# Altium footprint library PlateCutouts_Metric.PcbLib: 14 footprints
Each footprint in its own frame and in the unit in brackets; x right, y up, seen from the top. Pads: shape width x height; smd on the part's side, far side on the other; paste and mask are expansions set on the pad; w line width, h text height; cw(c..) or ccw(c..) is an arc to the next point about the centre after c.
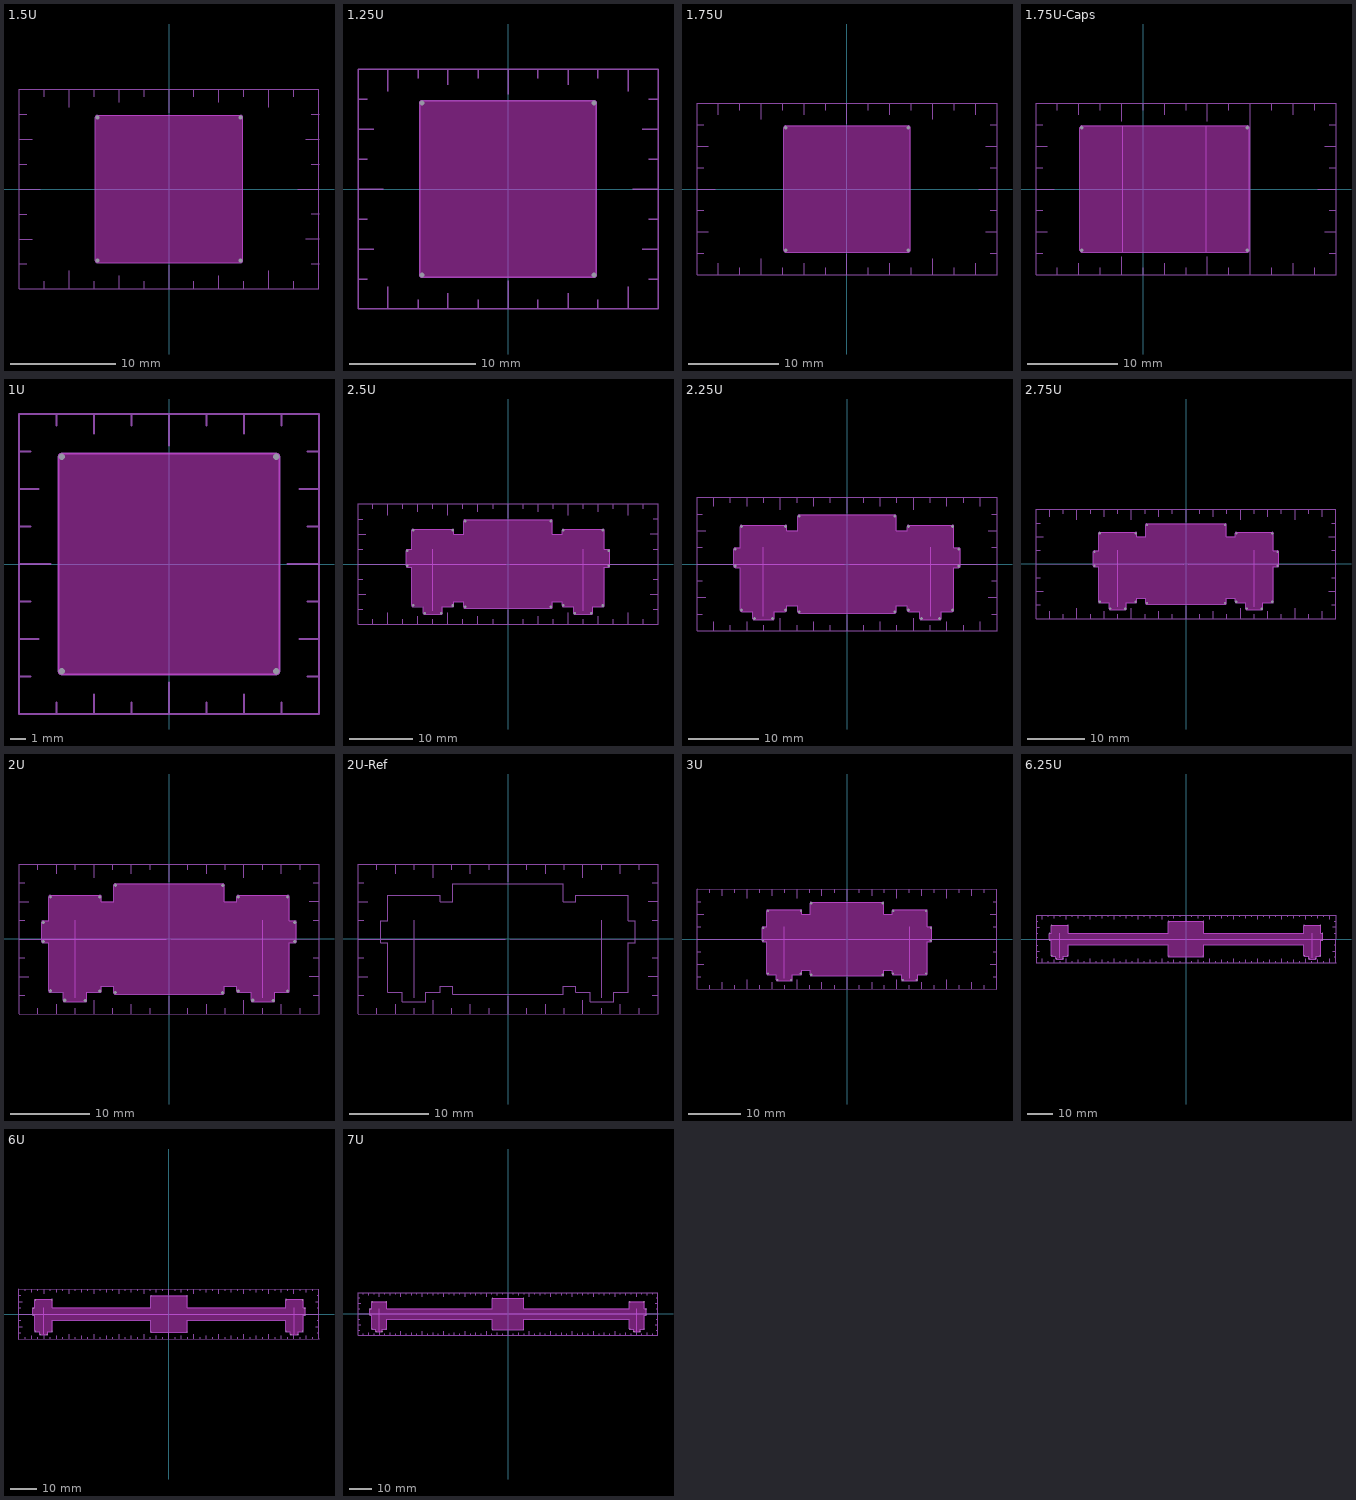
[diagram p0: the footprints below, top view; thin cyan lines are the x and y axes]

## 1.5U [mm]
pads (4):
  round 0.1 hole 0.4 unplated: 27(-6.8,-6.795) 27(-6.795,6.8) 27(6.795,-6.8) 27(6.8,6.795)
Keep-Out Layer:
  board cut-out: -6.8,-7 -6.84,-7 -6.913,-6.97 -6.97,-6.913 -7,-6.84 -7,-6.8 -7,6.8 -7,6.84 -6.97,6.913 -6.913,6.97 -6.84,7 -6.8,7 6.8,7 6.84,7 6.913,6.97 6.97,6.913 7,6.84 7,6.8 7,-6.8 7,-6.84 6.97,-6.913 6.913,-6.97 6.84,-7 6.8,-7
Board Outline:
  lines w0.1: -7,-6.8 ccw(c-6.8,-6.8) -6.8,-7 6.8,-7 ccw(c6.8,-6.8) 7,-6.8 7,6.8 ccw(c6.8,6.8) 6.8,7 -6.8,7 ccw(c-6.8,6.8) -7,6.8 -7,-6.8
Layout + Dimensions:
  lines w0.1: -14.25,-7.125 -13.5,-7.125 ; -14.25,-4.75 -13,-4.75 ; -14.25,-2.375 -13.5,-2.375 ; -14.25,0 -12.25,0 ; -14.25,2.375 -13.5,2.375 ; -14.25,4.75 -13,4.75 ; -14.25,7.125 -13.5,7.125 ; -11.875,-9.5 -11.875,-8.75 ; -11.875,8.75 -11.875,9.5 ; -9.5,-9.5 -9.5,-7.75 ; -9.5,7.75 -9.5,9.5 ; -7.125,-9.5 -7.125,-8.75 ; -7.125,8.75 -7.125,9.5 ; -4.75,-9.5 -4.75,-8.25 ; -4.75,8.25 -4.75,9.5 ; -2.375,-9.5 -2.375,-8.75 ; -2.375,8.75 -2.375,9.5 ; 0,-9.5 0,-7.25 ; 0,7.25 0,9.5 ; 2.375,-9.5 2.375,-8.75 ; 2.375,8.75 2.375,9.5 ; 4.75,-9.5 4.75,-8.25 ; 4.75,8.25 4.75,9.5 ; 7.125,-9.5 7.125,-8.75 ; 7.125,8.75 7.125,9.5 ; 9.5,-9.5 9.5,-7.75 ; 9.5,7.75 9.5,9.5 ; 11.875,-9.5 11.875,-8.75 ; 11.875,8.75 11.875,9.5 ; 12.25,0 14.25,0 ; 13,-4.75 14.25,-4.75 ; 13,4.75 14.25,4.75 ; 13.5,-7.125 14.25,-7.125 ; 13.5,-2.375 14.25,-2.375 ; 13.5,2.375 14.25,2.375 ; 13.5,7.125 14.25,7.125 ; -14.25,-9.5 -14.25,9.5 14.25,9.5 14.25,-9.5 -14.25,-9.5

## 1.25U [mm]
pads (4):
  round 0.1 hole 0.4 unplated: 27(-6.8,-6.795) 27(-6.795,6.8) 27(6.795,-6.8) 27(6.8,6.795)
Keep-Out Layer:
  board cut-out: -6.8,-7 -6.84,-7 -6.913,-6.97 -6.97,-6.913 -7,-6.84 -7,-6.8 -7,6.8 -7,6.84 -6.97,6.913 -6.913,6.97 -6.84,7 -6.8,7 6.8,7 6.84,7 6.913,6.97 6.97,6.913 7,6.84 7,6.8 7,-6.8 7,-6.84 6.97,-6.913 6.913,-6.97 6.84,-7 6.8,-7
Board Outline:
  lines w0.1: -7,-6.8 ccw(c-6.8,-6.8) -6.8,-7 6.8,-7 ccw(c6.8,-6.8) 7,-6.8 7,6.8 ccw(c6.8,6.8) 6.8,7 -6.8,7 ccw(c-6.8,6.8) -7,6.8 -7,-6.8
Layout + Dimensions:
  lines w0.1: -11.875,-7.125 -11.125,-7.125 ; -11.875,-4.75 -10.625,-4.75 ; -11.875,-2.375 -11.125,-2.375 ; -11.875,0 -9.875,0 ; -11.875,2.375 -11.125,2.375 ; -11.875,4.75 -10.625,4.75 ; -11.875,7.125 -11.125,7.125 ; -9.5,-9.5 -9.5,-7.75 ; -9.5,7.75 -9.5,9.5 ; -7.125,-9.5 -7.125,-8.75 ; -7.125,8.75 -7.125,9.5 ; -4.75,-9.5 -4.75,-8.25 ; -4.75,8.25 -4.75,9.5 ; -2.375,-9.5 -2.375,-8.75 ; -2.375,8.75 -2.375,9.5 ; 0,-9.5 0,-7.25 ; 0,7.5 0,9.5 ; 2.375,-9.5 2.375,-8.75 ; 2.375,8.75 2.375,9.5 ; 4.75,-9.5 4.75,-8.25 ; 4.75,8.25 4.75,9.5 ; 7.125,-9.5 7.125,-8.75 ; 7.125,8.75 7.125,9.5 ; 9.5,-9.5 9.5,-7.75 ; 9.5,7.75 9.5,9.5 ; 9.875,0 11.875,0 ; 10.625,-4.75 11.875,-4.75 ; 10.625,4.75 11.875,4.75 ; 11.125,-7.125 11.875,-7.125 ; 11.125,-2.375 11.875,-2.375 ; 11.125,2.375 11.875,2.375 ; 11.125,7.125 11.875,7.125 ; -11.875,-9.5 11.875,-9.5 11.875,9.5 -11.875,9.5 -11.875,-9.5

## 1.75U [mm]
pads (4):
  round 0.1 hole 0.4 unplated: 27(-6.8,-6.795) 27(-6.795,6.8) 27(6.795,-6.8) 27(6.8,6.795)
Keep-Out Layer:
  board cut-out: -6.8,-7 -6.84,-7 -6.913,-6.97 -6.97,-6.913 -7,-6.84 -7,-6.8 -7,6.8 -7,6.84 -6.97,6.913 -6.913,6.97 -6.84,7 -6.8,7 6.8,7 6.84,7 6.913,6.97 6.97,6.913 7,6.84 7,6.8 7,-6.8 7,-6.84 6.97,-6.913 6.913,-6.97 6.84,-7 6.8,-7
Board Outline:
  lines w0.1: -7,-6.8 ccw(c-6.8,-6.8) -6.8,-7 6.8,-7 ccw(c6.8,-6.8) 7,-6.8 7,6.8 ccw(c6.8,6.8) 6.8,7 -6.8,7 ccw(c-6.8,6.8) -7,6.8 -7,-6.8
Layout + Dimensions:
  lines w0.1: -16.625,-7.125 -15.875,-7.125 ; -16.625,-4.75 -15.375,-4.75 ; -16.625,-2.375 -15.875,-2.375 ; -16.625,0 -14.625,0 ; -16.625,2.375 -15.875,2.375 ; -16.625,4.75 -15.375,4.75 ; -16.625,7.125 -15.875,7.125 ; -14.25,-9.5 -14.25,-8.25 ; -14.25,8.25 -14.25,9.5 ; -11.875,-9.5 -11.875,-8.75 ; -11.875,8.75 -11.875,9.5 ; -9.5,-9.5 -9.5,-7.75 ; -9.5,7.75 -9.5,9.5 ; -7.125,-9.5 -7.125,-8.75 ; -7.125,8.75 -7.125,9.5 ; -4.75,-9.5 -4.75,-8.25 ; -4.75,8.25 -4.75,9.5 ; -2.375,-9.5 -2.375,-8.75 ; -2.375,8.75 -2.375,9.5 ; 0,-9.5 0,-7.25 ; 0,7.25 0,9.5 ; 2.375,-9.5 2.375,-8.75 ; 2.375,8.75 2.375,9.5 ; 4.75,-9.5 4.75,-8.25 ; 4.75,8.25 4.75,9.5 ; 7.125,-9.5 7.125,-8.75 ; 7.125,8.75 7.125,9.5 ; 9.5,-9.5 9.5,-7.75 ; 9.5,7.75 9.5,9.5 ; 11.875,-9.5 11.875,-8.75 ; 11.875,8.75 11.875,9.5 ; 14.25,-9.5 14.25,-8.25 ; 14.25,8.25 14.25,9.5 ; 14.625,0 16.625,0 ; 15.375,-4.75 16.625,-4.75 ; 15.375,4.75 16.625,4.75 ; 15.875,-7.125 16.625,-7.125 ; 15.875,-2.375 16.625,-2.375 ; 15.875,2.375 16.625,2.375 ; 15.875,7.125 16.625,7.125 ; -16.625,-9.5 16.625,-9.5 16.625,9.5 -16.625,9.5 -16.625,-9.5

## 1.75U-Caps [mm]
pads (4):
  round 0.1 hole 0.4 unplated: 27(-6.8,-6.795) 27(-6.795,6.8) 27(11.545,-6.8) 27(11.55,6.795)
Keep-Out Layer:
  board cut-out: -6.8,-7 -6.84,-7 -6.913,-6.97 -6.97,-6.913 -7,-6.84 -7,-6.8 -7,6.8 -7,6.84 -6.97,6.913 -6.913,6.97 -6.84,7 -6.8,7 11.55,7 11.59,7 11.663,6.97 11.72,6.913 11.75,6.84 11.75,6.8 11.75,-6.8 11.75,-6.84 11.72,-6.913 11.663,-6.97 11.59,-7 11.55,-7
Board Outline:
  lines w0.1: -2.25,-7 -2.25,7 ; 7,-7 7,7 ; -7,-6.8 ccw(c-6.8,-6.8) -6.8,-7 11.55,-7 ccw(c11.55,-6.8) 11.75,-6.8 11.75,6.8 ccw(c11.55,6.8) 11.55,7 -6.8,7 ccw(c-6.8,6.8) -7,6.8 -7,-6.8
Layout + Dimensions:
  lines w0.1: -11.875,-7.125 -11.125,-7.125 ; -11.875,-4.75 -10.625,-4.75 ; -11.875,-2.375 -11.125,-2.375 ; -11.875,0 -9.875,0 ; -11.875,2.375 -11.125,2.375 ; -11.875,4.75 -10.625,4.75 ; -11.875,7.125 -11.125,7.125 ; -9.5,-9.5 -9.5,-8.75 ; -9.5,8.75 -9.5,9.5 ; -7.125,-9.5 -7.125,-8.25 ; -7.125,8.25 -7.125,9.5 ; -4.75,-9.5 -4.75,-8.75 ; -4.75,8.75 -4.75,9.5 ; -2.375,-9.5 -2.375,-7.5 ; -2.375,7.5 -2.375,9.5 ; 0,-9.5 0,-8.75 ; 0,8.75 0,9.5 ; 2.375,-9.5 2.375,-8.25 ; 2.375,8.25 2.375,9.5 ; 4.75,-9.5 4.75,-8.75 ; 4.75,8.75 4.75,9.5 ; 7.125,-9.5 7.125,-7.5 ; 7.125,7.5 7.125,9.5 ; 9.5,-9.5 9.5,-8.75 ; 9.5,8.75 9.5,9.5 ; 11.875,-9.5 11.875,9.5 ; 14.25,-9.5 14.25,-8.75 ; 14.25,8.75 14.25,9.5 ; 16.625,-9.5 16.625,-8.25 ; 16.625,8.25 16.625,9.5 ; 19,-9.5 19,-8.75 ; 19,8.75 19,9.5 ; 19.375,0 21.375,0 ; 20.125,-4.75 21.375,-4.75 ; 20.125,4.75 21.375,4.75 ; 20.625,-7.125 21.375,-7.125 ; 20.625,-2.375 21.375,-2.375 ; 20.625,2.375 21.375,2.375 ; 20.625,7.125 21.375,7.125 ; -11.875,-9.5 21.375,-9.5 21.375,9.5 -11.875,9.5 -11.875,-9.5
  text "1.25" at -1.15,-8.475 h1
  text "1.5" at 4.075,-8.475 h1

## 1U [mm]
pads (4):
  round 0.1 hole 0.4 unplated: 27(-6.8,-6.795) 27(-6.795,6.8) 27(6.795,-6.8) 27(6.8,6.795)
Keep-Out Layer:
  board cut-out: -6.8,-7 -6.84,-7 -6.913,-6.97 -6.97,-6.913 -7,-6.84 -7,-6.8 -7,6.8 -7,6.84 -6.97,6.913 -6.913,6.97 -6.84,7 -6.8,7 6.8,7 6.84,7 6.913,6.97 6.97,6.913 7,6.84 7,6.8 7,-6.8 7,-6.84 6.97,-6.913 6.913,-6.97 6.84,-7 6.8,-7
Board Outline:
  lines w0.1: -7,-6.8 ccw(c-6.8,-6.8) -6.8,-7 6.8,-7 ccw(c6.8,-6.8) 7,-6.8 7,6.8 ccw(c6.8,6.8) 6.8,7 -6.8,7 ccw(c-6.8,6.8) -7,6.8 -7,-6.8
Layout + Dimensions:
  lines w0.1: -9.5,-7.125 -8.75,-7.125 ; -9.5,-4.75 -8.25,-4.75 ; -9.5,-2.375 -8.75,-2.375 ; -9.5,0 -7.5,0 ; -9.5,2.375 -8.75,2.375 ; -9.5,4.75 -8.25,4.75 ; -9.5,7.125 -8.75,7.125 ; -7.125,-9.5 -7.125,-8.75 ; -7.125,8.75 -7.125,9.5 ; -4.75,-9.5 -4.75,-8.25 ; -4.75,8.25 -4.75,9.5 ; -2.375,-9.5 -2.375,-8.75 ; -2.375,8.75 -2.375,9.5 ; 0,-9.5 0,-7.5 ; 0,7.5 0,9.5 ; 2.375,-9.5 2.375,-8.75 ; 2.375,8.75 2.375,9.5 ; 4.75,-9.5 4.75,-8.25 ; 4.75,8.25 4.75,9.5 ; 7.125,-9.5 7.125,-8.75 ; 7.125,8.75 7.125,9.5 ; 7.5,0 9.5,0 ; 8.25,-4.75 9.5,-4.75 ; 8.25,4.75 9.5,4.75 ; 8.75,-7.125 9.5,-7.125 ; 8.75,-2.375 9.5,-2.375 ; 8.75,2.375 9.5,2.375 ; 8.75,7.125 9.5,7.125 ; -9.5,-9.5 9.5,-9.5 9.5,9.5 -9.5,9.5 -9.5,-9.5

## 2.5U [mm]
pads (20):
  round 0.1 hole 0.4 unplated: 27(-15.925,-0.295) 27(-15.92,2.1) 27(-15.025,-6.565) 27(-15.02,5.33) 27(-13.2,-7.765) 27(-10.605,-7.77) 27(-8.78,-6.57) 27(-8.775,5.325) 27(-6.8,-6.795) 27(-6.795,6.8) 27(6.795,-6.8) 27(6.8,6.795) 27(8.775,-6.565) 27(8.78,5.325) 27(10.6,-7.765) 27(13.195,-7.77) 27(15.02,-6.57) 27(15.025,5.325) 27(15.92,-0.3) 27(15.925,2.095)
Keep-Out Layer:
  drawing of 1 lines, arcs and shapes, not listed
Board Outline:
  lines w0.1: 8.775,5.525 ccw(c8.775,5.325) 8.575,5.325 8.575,4.725 7,4.725 7,6.8 ccw(c6.8,6.8) 6.8,7 -6.8,7 ccw(c-6.8,6.8) -7,6.8 -7,4.725 -8.575,4.725 -8.575,5.33 ccw(c-8.775,5.33) -8.775,5.53 -15.025,5.53 ccw(c-15.025,5.33) -15.225,5.33 -15.225,2.3 -15.925,2.3 ccw(c-15.925,2.1) -16.125,2.1 -16.125,-0.3 ccw(c-15.925,-0.3) -15.925,-0.5 -15.225,-0.5 -15.225,-6.57 ccw(c-15.025,-6.57) -15.025,-6.77 -13.4,-6.77 -13.4,-7.77 ccw(c-13.2,-7.77) -13.2,-7.97 -10.6,-7.97 ccw(c-10.6,-7.77) -10.4,-7.77 -10.4,-6.77 -8.775,-6.77 ccw(c-8.775,-6.57) -8.575,-6.57 -8.575,-5.97 -7,-5.97 -7,-6.8 ccw(c-6.8,-6.8) -6.8,-7 6.8,-7 ccw(c6.8,-6.8) 7,-6.8 7,-5.97 8.575,-5.97 8.575,-6.57 ccw(c8.775,-6.57) 8.775,-6.77 10.4,-6.77 10.4,-7.77 ccw(c10.6,-7.77) 10.6,-7.97 13.2,-7.97 ccw(c13.2,-7.77) 13.4,-7.77 13.4,-6.77 15.025,-6.77 ccw(c15.025,-6.57) 15.225,-6.57 15.225,-0.5 15.925,-0.5 ccw(c15.925,-0.3) 16.125,-0.3 16.125,2.1 ccw(c15.925,2.1) 15.925,2.3 15.225,2.3 15.225,5.33 ccw(c15.025,5.33) 15.025,5.53 8.775,5.53
Layout + Dimensions:
  lines w0.1: -23.75,-7.125 -23,-7.125 ; -23.75,-4.75 -22.5,-4.75 ; -23.75,-2.375 -23,-2.375 ; -23.75,0 -0.375,0 ; -23.75,2.375 -23,2.375 ; -23.75,4.75 -22.5,4.75 ; -23.75,7.125 -23,7.125 ; -21.375,-9.5 -21.375,-8.75 ; -21.375,8.75 -21.375,9.5 ; -19,-9.5 -19,-7.75 ; -19,7.75 -19,9.5 ; -16.625,-9.5 -16.625,-8.75 ; -16.625,8.75 -16.625,9.5 ; -14.25,-9.5 -14.25,-8.25 ; -14.25,8.25 -14.25,9.5 ; -11.9,-7.425 -11.9,2.375 ; -11.875,-9.5 -11.875,-8.75 ; -11.875,8.75 -11.875,9.5 ; -9.5,-9.5 -9.5,-7.75 ; -9.5,7.75 -9.5,9.5 ; -7.125,-9.5 -7.125,-8.75 ; -7.125,8.75 -7.125,9.5 ; -4.75,-9.5 -4.75,-8.25 ; -4.75,8.25 -4.75,9.5 ; -2.375,-9.5 -2.375,-8.75 ; -2.375,8.75 -2.375,9.5 ; 0,-9.5 0,-7.25 ; 0,7.25 0,9.5 ; 0.375,0 23.75,0 ; 2.375,-9.5 2.375,-8.75 ; 2.375,8.75 2.375,9.5 ; 4.75,-9.5 4.75,-8.25 ; 4.75,8.25 4.75,9.5 ; 7.125,-9.5 7.125,-8.75 ; 7.125,8.75 7.125,9.5 ; 9.5,-9.5 9.5,-7.75 ; 9.5,7.75 9.5,9.5 ; 11.875,-9.5 11.875,-8.75 ; 11.875,8.75 11.875,9.5 ; 11.9,-7.425 11.9,2.375 ; 14.25,-9.5 14.25,-8.25 ; 14.25,8.25 14.25,9.5 ; 16.625,-9.5 16.625,-8.75 ; 16.625,8.75 16.625,9.5 ; 19,-9.5 19,-7.75 ; 19,7.75 19,9.5 ; 21.375,-9.5 21.375,-8.75 ; 21.375,8.75 21.375,9.5 ; 22.5,-4.75 23.75,-4.75 ; 22.5,4.75 23.75,4.75 ; 23,-7.125 23.75,-7.125 ; 23,-2.375 23.75,-2.375 ; 23,2.375 23.75,2.375 ; 23,7.125 23.75,7.125 ; -23.75,-9.5 -23.75,9.5 23.75,9.5 23.75,-9.5 -23.75,-9.5

## 2.25U [mm]
pads (20):
  round 0.1 hole 0.4 unplated: 27(-15.925,-0.295) 27(-15.92,2.1) 27(-15.025,-6.565) 27(-15.02,5.33) 27(-13.2,-7.765) 27(-10.605,-7.77) 27(-8.78,-6.57) 27(-8.775,5.325) 27(-6.8,-6.795) 27(-6.795,6.8) 27(6.795,-6.8) 27(6.8,6.795) 27(8.775,-6.565) 27(8.78,5.325) 27(10.6,-7.765) 27(13.195,-7.77) 27(15.02,-6.57) 27(15.025,5.325) 27(15.92,-0.3) 27(15.925,2.095)
Keep-Out Layer:
  drawing of 1 lines, arcs and shapes, not listed
Board Outline:
  lines w0.1: 8.775,5.525 ccw(c8.775,5.325) 8.575,5.325 8.575,4.725 7,4.725 7,6.8 ccw(c6.8,6.8) 6.8,7 -6.8,7 ccw(c-6.8,6.8) -7,6.8 -7,4.725 -8.575,4.725 -8.575,5.33 ccw(c-8.775,5.33) -8.775,5.53 -15.025,5.53 ccw(c-15.025,5.33) -15.225,5.33 -15.225,2.3 -15.925,2.3 ccw(c-15.925,2.1) -16.125,2.1 -16.125,-0.3 ccw(c-15.925,-0.3) -15.925,-0.5 -15.225,-0.5 -15.225,-6.57 ccw(c-15.025,-6.57) -15.025,-6.77 -13.4,-6.77 -13.4,-7.77 ccw(c-13.2,-7.77) -13.2,-7.97 -10.6,-7.97 ccw(c-10.6,-7.77) -10.4,-7.77 -10.4,-6.77 -8.775,-6.77 ccw(c-8.775,-6.57) -8.575,-6.57 -8.575,-5.97 -7,-5.97 -7,-6.8 ccw(c-6.8,-6.8) -6.8,-7 6.8,-7 ccw(c6.8,-6.8) 7,-6.8 7,-5.97 8.575,-5.97 8.575,-6.57 ccw(c8.775,-6.57) 8.775,-6.77 10.4,-6.77 10.4,-7.77 ccw(c10.6,-7.77) 10.6,-7.97 13.2,-7.97 ccw(c13.2,-7.77) 13.4,-7.77 13.4,-6.77 15.025,-6.77 ccw(c15.025,-6.57) 15.225,-6.57 15.225,-0.5 15.925,-0.5 ccw(c15.925,-0.3) 16.125,-0.3 16.125,2.1 ccw(c15.925,2.1) 15.925,2.3 15.225,2.3 15.225,5.33 ccw(c15.025,5.33) 15.025,5.53 8.775,5.53
Layout + Dimensions:
  lines w0.1: -21.375,-7.125 -20.625,-7.125 ; -21.375,-4.75 -20.125,-4.75 ; -21.375,-2.375 -20.625,-2.375 ; -21.375,0 -0.375,0 ; -21.375,2.375 -20.625,2.375 ; -21.375,4.75 -20.125,4.75 ; -21.375,7.125 -20.625,7.125 ; -19,-9.5 -19,-8.25 ; -19,8.25 -19,9.5 ; -16.625,-9.5 -16.625,-8.75 ; -16.625,8.75 -16.625,9.5 ; -14.25,-9.5 -14.25,-8.25 ; -14.25,8.25 -14.25,9.5 ; -11.9,-7.425 -11.9,2.375 ; -11.875,-9.5 -11.875,-8.75 ; -11.875,8.75 -11.875,9.5 ; -9.5,-9.5 -9.5,-7.75 ; -9.5,7.75 -9.5,9.5 ; -7.125,-9.5 -7.125,-8.75 ; -7.125,8.75 -7.125,9.5 ; -4.75,-9.5 -4.75,-8.25 ; -4.75,8.25 -4.75,9.5 ; -2.375,-9.5 -2.375,-8.75 ; -2.375,8.75 -2.375,9.5 ; 0,-9.5 0,-7.25 ; 0,7.25 0,9.5 ; 0.375,0 21.375,0 ; 2.375,-9.5 2.375,-8.75 ; 2.375,8.75 2.375,9.5 ; 4.75,-9.5 4.75,-8.25 ; 4.75,8.25 4.75,9.5 ; 7.125,-9.5 7.125,-8.75 ; 7.125,8.75 7.125,9.5 ; 9.5,-9.5 9.5,-7.75 ; 9.5,7.75 9.5,9.5 ; 11.875,-9.5 11.875,-8.75 ; 11.875,8.75 11.875,9.5 ; 11.9,-7.425 11.9,2.375 ; 14.25,-9.5 14.25,-8.25 ; 14.25,8.25 14.25,9.5 ; 16.625,-9.5 16.625,-8.75 ; 16.625,8.75 16.625,9.5 ; 19,-9.5 19,-8.25 ; 19,8.25 19,9.5 ; 20.125,-4.75 21.375,-4.75 ; 20.125,4.75 21.375,4.75 ; 20.625,-7.125 21.375,-7.125 ; 20.625,-2.375 21.375,-2.375 ; 20.625,2.375 21.375,2.375 ; 20.625,7.125 21.375,7.125 ; -21.375,-9.5 -21.375,9.5 21.375,9.5 21.375,-9.5 -21.375,-9.5

## 2.75U [mm]
pads (20):
  round 0.1 hole 0.4 unplated: 27(-15.925,-0.295) 27(-15.92,2.1) 27(-15.025,-6.565) 27(-15.02,5.33) 27(-13.2,-7.765) 27(-10.605,-7.77) 27(-8.78,-6.57) 27(-8.775,5.325) 27(-6.8,-6.795) 27(-6.795,6.8) 27(6.795,-6.8) 27(6.8,6.795) 27(8.775,-6.565) 27(8.78,5.325) 27(10.6,-7.765) 27(13.195,-7.77) 27(15.02,-6.57) 27(15.025,5.325) 27(15.92,-0.3) 27(15.925,2.095)
Keep-Out Layer:
  drawing of 1 lines, arcs and shapes, not listed
Board Outline:
  lines w0.1: 8.775,5.525 ccw(c8.775,5.325) 8.575,5.325 8.575,4.725 7,4.725 7,6.8 ccw(c6.8,6.8) 6.8,7 -6.8,7 ccw(c-6.8,6.8) -7,6.8 -7,4.725 -8.575,4.725 -8.575,5.33 ccw(c-8.775,5.33) -8.775,5.53 -15.025,5.53 ccw(c-15.025,5.33) -15.225,5.33 -15.225,2.3 -15.925,2.3 ccw(c-15.925,2.1) -16.125,2.1 -16.125,-0.3 ccw(c-15.925,-0.3) -15.925,-0.5 -15.225,-0.5 -15.225,-6.57 ccw(c-15.025,-6.57) -15.025,-6.77 -13.4,-6.77 -13.4,-7.77 ccw(c-13.2,-7.77) -13.2,-7.97 -10.6,-7.97 ccw(c-10.6,-7.77) -10.4,-7.77 -10.4,-6.77 -8.775,-6.77 ccw(c-8.775,-6.57) -8.575,-6.57 -8.575,-5.97 -7,-5.97 -7,-6.8 ccw(c-6.8,-6.8) -6.8,-7 6.8,-7 ccw(c6.8,-6.8) 7,-6.8 7,-5.97 8.575,-5.97 8.575,-6.57 ccw(c8.775,-6.57) 8.775,-6.77 10.4,-6.77 10.4,-7.77 ccw(c10.6,-7.77) 10.6,-7.97 13.2,-7.97 ccw(c13.2,-7.77) 13.4,-7.77 13.4,-6.77 15.025,-6.77 ccw(c15.025,-6.57) 15.225,-6.57 15.225,-0.5 15.925,-0.5 ccw(c15.925,-0.3) 16.125,-0.3 16.125,2.1 ccw(c15.925,2.1) 15.925,2.3 15.225,2.3 15.225,5.33 ccw(c15.025,5.33) 15.025,5.53 8.775,5.53
Layout + Dimensions:
  lines w0.1: -26.125,-7.125 -25.375,-7.125 ; -26.125,-4.75 -24.875,-4.75 ; -26.125,-2.375 -25.375,-2.375 ; -26.125,0 -0.375,0 ; -26.125,2.375 -25.375,2.375 ; -26.125,4.75 -24.875,4.75 ; -26.125,7.125 -25.375,7.125 ; -23.75,-9.5 -23.75,-8.25 ; -23.75,8.25 -23.75,9.5 ; -21.375,-9.5 -21.375,-8.75 ; -21.375,8.75 -21.375,9.5 ; -19,-9.5 -19,-7.75 ; -19,7.75 -19,9.5 ; -16.625,-9.5 -16.625,-8.75 ; -16.625,8.75 -16.625,9.5 ; -14.25,-9.5 -14.25,-8.25 ; -14.25,8.25 -14.25,9.5 ; -11.9,-7.425 -11.9,2.375 ; -11.875,-9.5 -11.875,-8.75 ; -11.875,8.75 -11.875,9.5 ; -9.5,-9.5 -9.5,-7.75 ; -9.5,7.75 -9.5,9.5 ; -7.125,-9.5 -7.125,-8.75 ; -7.125,8.75 -7.125,9.5 ; -4.75,-9.5 -4.75,-8.25 ; -4.75,8.25 -4.75,9.5 ; -2.375,-9.5 -2.375,-8.75 ; -2.375,8.75 -2.375,9.5 ; 0,-9.5 0,-7.25 ; 0,7.25 0,9.5 ; 0.375,0 26.125,0 ; 2.375,-9.5 2.375,-8.75 ; 2.375,8.75 2.375,9.5 ; 4.75,-9.5 4.75,-8.25 ; 4.75,8.25 4.75,9.5 ; 7.125,-9.5 7.125,-8.75 ; 7.125,8.75 7.125,9.5 ; 9.5,-9.5 9.5,-7.75 ; 9.5,7.75 9.5,9.5 ; 11.875,-9.5 11.875,-8.75 ; 11.875,8.75 11.875,9.5 ; 11.9,-7.425 11.9,2.375 ; 14.25,-9.5 14.25,-8.25 ; 14.25,8.25 14.25,9.5 ; 16.625,-9.5 16.625,-8.75 ; 16.625,8.75 16.625,9.5 ; 19,-9.5 19,-7.75 ; 19,7.75 19,9.5 ; 21.375,-9.5 21.375,-8.75 ; 21.375,8.75 21.375,9.5 ; 23.75,-9.5 23.75,-8.25 ; 23.75,8.25 23.75,9.5 ; 24.875,-4.75 26.125,-4.75 ; 24.875,4.75 26.125,4.75 ; 25.375,-7.125 26.125,-7.125 ; 25.375,-2.375 26.125,-2.375 ; 25.375,2.375 26.125,2.375 ; 25.375,7.125 26.125,7.125 ; -26.125,-9.5 26.125,-9.5 26.125,9.5 -26.125,9.5 -26.125,-9.5

## 2U [mm]
pads (20):
  round 0.1 hole 0.4 unplated: 27(-15.925,-0.295) 27(-15.92,2.1) 27(-15.025,-6.565) 27(-15.02,5.33) 27(-13.2,-7.765) 27(-10.605,-7.77) 27(-8.78,-6.57) 27(-8.775,5.325) 27(-6.8,-6.795) 27(-6.795,6.8) 27(6.795,-6.8) 27(6.8,6.795) 27(8.775,-6.565) 27(8.78,5.325) 27(10.6,-7.765) 27(13.195,-7.77) 27(15.02,-6.57) 27(15.025,5.325) 27(15.92,-0.3) 27(15.925,2.095)
Keep-Out Layer:
  drawing of 1 lines, arcs and shapes, not listed
Board Outline:
  lines w0.1: 8.775,5.525 ccw(c8.775,5.325) 8.575,5.325 8.575,4.725 7,4.725 7,6.8 ccw(c6.8,6.8) 6.8,7 -6.8,7 ccw(c-6.8,6.8) -7,6.8 -7,4.725 -8.575,4.725 -8.575,5.33 ccw(c-8.775,5.33) -8.775,5.53 -15.025,5.53 ccw(c-15.025,5.33) -15.225,5.33 -15.225,2.3 -15.925,2.3 ccw(c-15.925,2.1) -16.125,2.1 -16.125,-0.3 ccw(c-15.925,-0.3) -15.925,-0.5 -15.225,-0.5 -15.225,-6.57 ccw(c-15.025,-6.57) -15.025,-6.77 -13.4,-6.77 -13.4,-7.77 ccw(c-13.2,-7.77) -13.2,-7.97 -10.6,-7.97 ccw(c-10.6,-7.77) -10.4,-7.77 -10.4,-6.77 -8.775,-6.77 ccw(c-8.775,-6.57) -8.575,-6.57 -8.575,-5.97 -7,-5.97 -7,-6.8 ccw(c-6.8,-6.8) -6.8,-7 6.8,-7 ccw(c6.8,-6.8) 7,-6.8 7,-5.97 8.575,-5.97 8.575,-6.57 ccw(c8.775,-6.57) 8.775,-6.77 10.4,-6.77 10.4,-7.77 ccw(c10.6,-7.77) 10.6,-7.97 13.2,-7.97 ccw(c13.2,-7.77) 13.4,-7.77 13.4,-6.77 15.025,-6.77 ccw(c15.025,-6.57) 15.225,-6.57 15.225,-0.5 15.925,-0.5 ccw(c15.925,-0.3) 16.125,-0.3 16.125,2.1 ccw(c15.925,2.1) 15.925,2.3 15.225,2.3 15.225,5.33 ccw(c15.025,5.33) 15.025,5.53 8.775,5.53
Layout + Dimensions:
  lines w0.1: -19,-7.125 -18.25,-7.125 ; -19,-4.75 -17.75,-4.75 ; -19,-2.375 -18.25,-2.375 ; -19,0 -0.375,0 ; -19,2.375 -18.25,2.375 ; -19,4.75 -17.75,4.75 ; -19,7.125 -18.25,7.125 ; -16.625,-9.5 -16.625,-8.75 ; -16.625,8.75 -16.625,9.5 ; -14.25,-9.5 -14.25,-8.25 ; -14.25,8.25 -14.25,9.5 ; -11.9,-7.425 -11.9,2.375 ; -11.875,-9.5 -11.875,-8.75 ; -11.875,8.75 -11.875,9.5 ; -9.5,-9.5 -9.5,-7.75 ; -9.5,7.75 -9.5,9.5 ; -7.125,-9.5 -7.125,-8.75 ; -7.125,8.75 -7.125,9.5 ; -4.75,-9.5 -4.75,-8.25 ; -4.75,8.25 -4.75,9.5 ; -2.375,-9.5 -2.375,-8.75 ; -2.375,8.75 -2.375,9.5 ; 0,-9.5 0,-7.25 ; 0,7.25 0,9.5 ; 0.375,0 19,0 ; 2.375,-9.5 2.375,-8.75 ; 2.375,8.75 2.375,9.5 ; 4.75,-9.5 4.75,-8.25 ; 4.75,8.25 4.75,9.5 ; 7.125,-9.5 7.125,-8.75 ; 7.125,8.75 7.125,9.5 ; 9.5,-9.5 9.5,-7.75 ; 9.5,7.75 9.5,9.5 ; 11.875,-9.5 11.875,-8.75 ; 11.875,8.75 11.875,9.5 ; 11.9,-7.425 11.9,2.375 ; 14.25,-9.5 14.25,-8.25 ; 14.25,8.25 14.25,9.5 ; 16.625,-9.5 16.625,-8.75 ; 16.625,8.75 16.625,9.5 ; 17.75,-4.75 19,-4.75 ; 17.75,4.75 19,4.75 ; 18.25,-7.125 19,-7.125 ; 18.25,-2.375 19,-2.375 ; 18.25,2.375 19,2.375 ; 18.25,7.125 19,7.125 ; -19,-9.5 -19,9.5 19,9.5 19,-9.5 -19,-9.5

## 2U-Ref [mm] "Referance from the MX Datasheet"
Board Outline:
  lines w0.1: -8.575,5.525 -8.575,4.725 -7,4.725 -7,7 ; -8.575,5.53 -15.225,5.53 -15.225,2.3 -16.125,2.3 -16.125,-0.5 -15.225,-0.5 -15.225,-6.77 -13.4,-6.77 -13.4,-7.97 -10.4,-7.97 -10.4,-6.77 -8.575,-6.77 -8.575,-5.97 -7,-5.97 -7,-7 7,-7 7,-5.97 8.575,-5.97 8.575,-6.77 10.4,-6.77 10.4,-7.97 13.4,-7.97 13.4,-6.77 15.225,-6.77 15.225,-0.5 16.125,-0.5 16.125,2.3 15.225,2.3 15.225,5.53 8.575,5.53 ; 8.575,5.525 8.575,4.725 7,4.725 7,7 ; -7,7 7,7 ; -7,7 7,7
Layout + Dimensions:
  lines w0.1: -19,-7.125 -18.25,-7.125 ; -19,-4.75 -17.75,-4.75 ; -19,-2.375 -18.25,-2.375 ; -19,0 -0.375,0 ; -19,2.375 -18.25,2.375 ; -19,4.75 -17.75,4.75 ; -19,7.125 -18.25,7.125 ; -16.625,-9.5 -16.625,-8.75 ; -16.625,8.75 -16.625,9.5 ; -14.25,-9.5 -14.25,-8.25 ; -14.25,8.25 -14.25,9.5 ; -11.9,-7.425 -11.9,2.375 ; -11.875,-9.5 -11.875,-8.75 ; -11.875,8.75 -11.875,9.5 ; -9.5,-9.5 -9.5,-7.75 ; -9.5,7.75 -9.5,9.5 ; -7.125,-9.5 -7.125,-8.75 ; -7.125,8.75 -7.125,9.5 ; -4.75,-9.5 -4.75,-8.25 ; -4.75,8.25 -4.75,9.5 ; -2.375,-9.5 -2.375,-8.75 ; -2.375,8.75 -2.375,9.5 ; 0,-9.5 0,-7.25 ; 0,7.25 0,9.5 ; 0.375,0 19,0 ; 2.375,-9.5 2.375,-8.75 ; 2.375,8.75 2.375,9.5 ; 4.75,-9.5 4.75,-8.25 ; 4.75,8.25 4.75,9.5 ; 7.125,-9.5 7.125,-8.75 ; 7.125,8.75 7.125,9.5 ; 9.5,-9.5 9.5,-7.75 ; 9.5,7.75 9.5,9.5 ; 11.875,-9.5 11.875,-8.75 ; 11.875,8.75 11.875,9.5 ; 11.9,-7.425 11.9,2.375 ; 14.25,-9.5 14.25,-8.25 ; 14.25,8.25 14.25,9.5 ; 16.625,-9.5 16.625,-8.75 ; 16.625,8.75 16.625,9.5 ; 17.75,-4.75 19,-4.75 ; 17.75,4.75 19,4.75 ; 18.25,-7.125 19,-7.125 ; 18.25,-2.375 19,-2.375 ; 18.25,2.375 19,2.375 ; 18.25,7.125 19,7.125 ; -19,-9.5 19,-9.5 19,9.5 -19,9.5 -19,-9.5

## 3U [mm]
pads (20):
  round 0.1 hole 0.4 unplated: 27(-15.925,-0.295) 27(-15.92,2.1) 27(-15.025,-6.565) 27(-15.02,5.33) 27(-13.2,-7.765) 27(-10.605,-7.77) 27(-8.78,-6.57) 27(-8.775,5.325) 27(-6.8,-6.795) 27(-6.795,6.8) 27(6.795,-6.8) 27(6.8,6.795) 27(8.775,-6.565) 27(8.78,5.325) 27(10.6,-7.765) 27(13.195,-7.77) 27(15.02,-6.57) 27(15.025,5.325) 27(15.92,-0.3) 27(15.925,2.095)
Keep-Out Layer:
  drawing of 1 lines, arcs and shapes, not listed
Board Outline:
  lines w0.1: 8.775,5.525 ccw(c8.775,5.325) 8.575,5.325 8.575,4.725 7,4.725 7,6.8 ccw(c6.8,6.8) 6.8,7 -6.8,7 ccw(c-6.8,6.8) -7,6.8 -7,4.725 -8.575,4.725 -8.575,5.33 ccw(c-8.775,5.33) -8.775,5.53 -15.025,5.53 ccw(c-15.025,5.33) -15.225,5.33 -15.225,2.3 -15.925,2.3 ccw(c-15.925,2.1) -16.125,2.1 -16.125,-0.3 ccw(c-15.925,-0.3) -15.925,-0.5 -15.225,-0.5 -15.225,-6.57 ccw(c-15.025,-6.57) -15.025,-6.77 -13.4,-6.77 -13.4,-7.77 ccw(c-13.2,-7.77) -13.2,-7.97 -10.6,-7.97 ccw(c-10.6,-7.77) -10.4,-7.77 -10.4,-6.77 -8.775,-6.77 ccw(c-8.775,-6.57) -8.575,-6.57 -8.575,-5.97 -7,-5.97 -7,-6.8 ccw(c-6.8,-6.8) -6.8,-7 6.8,-7 ccw(c6.8,-6.8) 7,-6.8 7,-5.97 8.575,-5.97 8.575,-6.57 ccw(c8.775,-6.57) 8.775,-6.77 10.4,-6.77 10.4,-7.77 ccw(c10.6,-7.77) 10.6,-7.97 13.2,-7.97 ccw(c13.2,-7.77) 13.4,-7.77 13.4,-6.77 15.025,-6.77 ccw(c15.025,-6.57) 15.225,-6.57 15.225,-0.5 15.925,-0.5 ccw(c15.925,-0.3) 16.125,-0.3 16.125,2.1 ccw(c15.925,2.1) 15.925,2.3 15.225,2.3 15.225,5.33 ccw(c15.025,5.33) 15.025,5.53 8.775,5.53
Layout + Dimensions:
  lines w0.1: -28.5,-7.125 -27.75,-7.125 ; -28.5,-4.75 -27.25,-4.75 ; -28.5,-2.375 -27.75,-2.375 ; -28.5,0 -0.375,0 ; -28.5,2.375 -27.75,2.375 ; -28.5,4.75 -27.25,4.75 ; -28.5,7.125 -27.75,7.125 ; -26.125,-9.5 -26.125,-8.75 ; -26.125,8.75 -26.125,9.5 ; -23.75,-9.5 -23.75,-8.25 ; -23.75,8.25 -23.75,9.5 ; -21.375,-9.5 -21.375,-8.75 ; -21.375,8.75 -21.375,9.5 ; -19,-9.5 -19,-7.75 ; -19,7.75 -19,9.5 ; -16.625,-9.5 -16.625,-8.75 ; -16.625,8.75 -16.625,9.5 ; -14.25,-9.5 -14.25,-8.25 ; -14.25,8.25 -14.25,9.5 ; -11.9,-7.425 -11.9,2.375 ; -11.875,-9.5 -11.875,-8.75 ; -11.875,8.75 -11.875,9.5 ; -9.5,-9.5 -9.5,-7.75 ; -9.5,7.75 -9.5,9.5 ; -7.125,-9.5 -7.125,-8.75 ; -7.125,8.75 -7.125,9.5 ; -4.75,-9.5 -4.75,-8.25 ; -4.75,8.25 -4.75,9.5 ; -2.375,-9.5 -2.375,-8.75 ; -2.375,8.75 -2.375,9.5 ; 0,-9.5 0,-7.25 ; 0,7.25 0,9.5 ; 0.375,0 28.5,0 ; 2.375,-9.5 2.375,-8.75 ; 2.375,8.75 2.375,9.5 ; 4.75,-9.5 4.75,-8.25 ; 4.75,8.25 4.75,9.5 ; 7.125,-9.5 7.125,-8.75 ; 7.125,8.75 7.125,9.5 ; 9.5,-9.5 9.5,-7.75 ; 9.5,7.75 9.5,9.5 ; 11.875,-9.5 11.875,-8.75 ; 11.875,8.75 11.875,9.5 ; 11.9,-7.425 11.9,2.375 ; 14.25,-9.5 14.25,-8.25 ; 14.25,8.25 14.25,9.5 ; 16.625,-9.5 16.625,-8.75 ; 16.625,8.75 16.625,9.5 ; 19,-9.5 19,-7.75 ; 19,7.75 19,9.5 ; 21.375,-9.5 21.375,-8.75 ; 21.375,8.75 21.375,9.5 ; 23.75,-9.5 23.75,-8.25 ; 23.75,8.25 23.75,9.5 ; 26.125,-9.5 26.125,-8.75 ; 26.125,8.75 26.125,9.5 ; 27.25,-4.75 28.5,-4.75 ; 27.25,4.75 28.5,4.75 ; 27.75,-7.125 28.5,-7.125 ; 27.75,-2.375 28.5,-2.375 ; 27.75,2.375 28.5,2.375 ; 27.75,7.125 28.5,7.125 ; -28.5,-9.5 -28.5,9.5 28.5,9.5 28.5,-9.5 -28.5,-9.5

## 6.25U [mm]
pads (20):
  round 0.1 hole 0.4 unplated: 27(-54.025,-0.295) 27(-54.02,2.1) 27(-53.125,-6.565) 27(-53.12,5.33) 27(-51.3,-7.765) 27(-48.705,-7.77) 27(-46.88,-6.57) 27(-46.875,5.325) 27(-6.8,-6.795) 27(-6.795,6.8) 27(6.795,6.8) 27(6.8,-6.795) 27(46.875,5.325) 27(46.88,-6.57) 27(48.705,-7.77) 27(51.3,-7.765) 27(53.12,5.33) 27(53.125,-6.565) 27(54.02,2.1) 27(54.025,-0.295)
Keep-Out Layer:
  drawing of 1 lines, arcs and shapes, not listed
Board Outline:
  lines w0.1: -54.225,-0.3 ccw(c-54.025,-0.3) -54.025,-0.5 -53.325,-0.5 -53.325,-6.57 ccw(c-53.125,-6.57) -53.125,-6.77 -51.5,-6.77 -51.5,-7.77 ccw(c-51.3,-7.77) -51.3,-7.97 -48.7,-7.97 ccw(c-48.7,-7.77) -48.5,-7.77 -48.5,-6.77 -46.875,-6.77 ccw(c-46.875,-6.57) -46.675,-6.57 -46.675,-2.3 -7,-2.3 -7,-6.8 ccw(c-6.8,-6.8) -6.8,-7 6.8,-7 ccw(c6.8,-6.8) 7,-6.8 7,-2.3 46.675,-2.3 46.675,-6.57 ccw(c46.875,-6.57) 46.875,-6.77 48.5,-6.77 48.5,-7.77 ccw(c48.7,-7.77) 48.7,-7.97 51.3,-7.97 ccw(c51.3,-7.77) 51.5,-7.77 51.5,-6.77 53.125,-6.77 ccw(c53.125,-6.57) 53.325,-6.57 53.325,-0.5 54.025,-0.5 ccw(c54.025,-0.3) 54.225,-0.3 54.225,2.1 ccw(c54.025,2.1) 54.025,2.3 53.325,2.3 53.325,5.33 ccw(c53.125,5.33) 53.125,5.53 46.875,5.53 ccw(c46.875,5.33) 46.675,5.33 46.675,2.3 7,2.3 7,6.8 ccw(c6.8,6.8) 6.8,7 -6.8,7 ccw(c-6.8,6.8) -7,6.8 -7,2.3 -46.675,2.3 -46.675,5.33 ccw(c-46.875,5.33) -46.875,5.53 -53.125,5.53 ccw(c-53.125,5.33) -53.325,5.33 -53.325,2.3 -54.025,2.3 ccw(c-54.025,2.1) -54.225,2.1 -54.225,-0.3
Layout + Dimensions:
  lines w0.1: -59.375,-7.125 -58.625,-7.125 ; -59.375,-4.75 -58.125,-4.75 ; -59.375,-2.375 -58.625,-2.375 ; -59.375,0 -0.375,0 ; -59.375,2.375 -58.625,2.375 ; -59.375,4.75 -58.125,4.75 ; -59.375,7.125 -58.625,7.125 ; -57,-9.5 -57,-7.75 ; -57,7.75 -57,9.5 ; -54.625,-9.5 -54.625,-8.75 ; -54.625,8.75 -54.625,9.5 ; -52.25,-9.5 -52.25,-8.25 ; -52.25,8.25 -52.25,9.5 ; -50,-7.425 -50,2.375 ; -49.875,-9.5 -49.875,-8.75 ; -49.875,8.75 -49.875,9.5 ; -47.5,-9.5 -47.5,-7.75 ; -47.5,7.75 -47.5,9.5 ; -45.125,-9.5 -45.125,-8.75 ; -45.125,8.75 -45.125,9.5 ; -42.75,-9.5 -42.75,-8.25 ; -42.75,8.25 -42.75,9.5 ; -40.375,-9.5 -40.375,-8.75 ; -40.375,8.75 -40.375,9.5 ; -38,-9.5 -38,-7.75 ; -38,7.75 -38,9.5 ; -35.625,-9.5 -35.625,-8.75 ; -35.625,8.75 -35.625,9.5 ; -33.25,-9.5 -33.25,-8.25 ; -33.25,8.25 -33.25,9.5 ; -30.875,-9.5 -30.875,-8.75 ; -30.875,8.75 -30.875,9.5 ; -28.5,-9.5 -28.5,-7.75 ; -28.5,7.75 -28.5,9.5 ; -26.125,-9.5 -26.125,-8.75 ; -26.125,8.75 -26.125,9.5 ; -23.75,-9.5 -23.75,-8.25 ; -23.75,8.25 -23.75,9.5 ; -21.375,-9.5 -21.375,-8.75 ; -21.375,8.75 -21.375,9.5 ; -19,-9.5 -19,-7.75 ; -19,7.75 -19,9.5 ; -16.625,-9.5 -16.625,-8.75 ; -16.625,8.75 -16.625,9.5 ; -14.25,-9.5 -14.25,-8.25 ; -14.25,8.25 -14.25,9.5 ; -11.875,-9.5 -11.875,-8.75 ; -11.875,8.75 -11.875,9.5 ; -9.5,-9.5 -9.5,-7.75 ; -9.5,7.75 -9.5,9.5 ; -7.125,-9.5 -7.125,-8.75 ; -7.125,8.75 -7.125,9.5 ; -4.75,-9.5 -4.75,-8.25 ; -4.75,8.25 -4.75,9.5 ; -2.375,-9.5 -2.375,-8.75 ; -2.375,8.75 -2.375,9.5 ; 0,-9.5 0,-7.25 ; 0,7.25 0,9.5 ; 0.375,0 59.375,0 ; 2.375,-9.5 2.375,-8.75 ; 2.375,8.75 2.375,9.5 ; 4.75,-9.5 4.75,-8.25 ; 4.75,8.25 4.75,9.5 ; 7.125,-9.5 7.125,-8.75 ; 7.125,8.75 7.125,9.5 ; 9.5,-9.5 9.5,-7.75 ; 9.5,7.75 9.5,9.5 ; 11.875,-9.5 11.875,-8.75 ; 11.875,8.75 11.875,9.5 ; 14.25,-9.5 14.25,-8.25 ; 14.25,8.25 14.25,9.5 ; 16.625,-9.5 16.625,-8.75 ; 16.625,8.75 16.625,9.5 ; 19,-9.5 19,-7.75 ; 19,7.75 19,9.5 ; 21.375,-9.5 21.375,-8.75 ; 21.375,8.75 21.375,9.5 ; 23.75,-9.5 23.75,-8.25 ; 23.75,8.25 23.75,9.5 ; 26.125,-9.5 26.125,-8.75 ; 26.125,8.75 26.125,9.5 ; 28.5,-9.5 28.5,-7.75 ; 28.5,7.75 28.5,9.5 ; 30.875,-9.5 30.875,-8.75 ; 30.875,8.75 30.875,9.5 ; 33.25,-9.5 33.25,-8.25 ; 33.25,8.25 33.25,9.5 ; 35.625,-9.5 35.625,-8.75 ; 35.625,8.75 35.625,9.5 ; 38,-9.5 38,-7.75 ; 38,7.75 38,9.5 ; 40.375,-9.5 40.375,-8.75 ; 40.375,8.75 40.375,9.5 ; 42.75,-9.5 42.75,-8.25 ; 42.75,8.25 42.75,9.5 ; 45.125,-9.5 45.125,-8.75 ; 45.125,8.75 45.125,9.5 ; 47.5,-9.5 47.5,-7.75 ; 47.5,7.75 47.5,9.5 ; 49.875,-9.5 49.875,-8.75 ; 49.875,8.75 49.875,9.5 ; 50,-7.425 50,2.375 ; 52.25,-9.5 52.25,-8.25 ; 52.25,8.25 52.25,9.5 ; 54.625,-9.5 54.625,-8.75 ; 54.625,8.75 54.625,9.5 ; 57,-9.5 57,-7.75 ; 57,7.75 57,9.5 ; 58.125,-4.75 59.375,-4.75 ; 58.125,4.75 59.375,4.75 ; 58.625,-7.125 59.375,-7.125 ; 58.625,-2.375 59.375,-2.375 ; 58.625,2.375 59.375,2.375 ; 58.625,7.125 59.375,7.125 ; -59.375,-9.5 59.375,-9.5 59.375,9.5 -59.375,9.5 -59.375,-9.5

## 6U [mm]
pads (20):
  round 0.1 hole 0.4 unplated: 27(-51.65,-0.295) 27(-51.645,2.1) 27(-50.75,-6.565) 27(-50.745,5.33) 27(-48.925,-7.765) 27(-46.33,-7.77) 27(-44.505,-6.57) 27(-44.5,5.325) 27(-6.8,-6.795) 27(-6.795,6.8) 27(6.795,6.8) 27(6.8,-6.795) 27(44.5,5.325) 27(44.505,-6.57) 27(46.33,-7.77) 27(48.925,-7.765) 27(50.745,5.33) 27(50.75,-6.565) 27(51.645,2.1) 27(51.65,-0.295)
Keep-Out Layer:
  drawing of 1 lines, arcs and shapes, not listed
Board Outline:
  lines w0.1: -51.85,-0.3 ccw(c-51.65,-0.3) -51.65,-0.5 -50.95,-0.5 -50.95,-6.57 ccw(c-50.75,-6.57) -50.75,-6.77 -49.125,-6.77 -49.125,-7.77 ccw(c-48.925,-7.77) -48.925,-7.97 -46.325,-7.97 ccw(c-46.325,-7.77) -46.125,-7.77 -46.125,-6.77 -44.5,-6.77 ccw(c-44.5,-6.57) -44.3,-6.57 -44.3,-2.3 -7,-2.3 -7,-6.8 ccw(c-6.8,-6.8) -6.8,-7 6.8,-7 ccw(c6.8,-6.8) 7,-6.8 7,-2.3 44.3,-2.3 44.3,-6.57 ccw(c44.5,-6.57) 44.5,-6.77 46.125,-6.77 46.125,-7.77 ccw(c46.325,-7.77) 46.325,-7.97 48.925,-7.97 ccw(c48.925,-7.77) 49.125,-7.77 49.125,-6.77 50.75,-6.77 ccw(c50.75,-6.57) 50.95,-6.57 50.95,-0.5 51.65,-0.5 ccw(c51.65,-0.3) 51.85,-0.3 51.85,2.1 ccw(c51.65,2.1) 51.65,2.3 50.95,2.3 50.95,5.33 ccw(c50.75,5.33) 50.75,5.53 44.5,5.53 ccw(c44.5,5.33) 44.3,5.33 44.3,2.3 7,2.3 7,6.8 ccw(c6.8,6.8) 6.8,7 -6.8,7 ccw(c-6.8,6.8) -7,6.8 -7,2.3 -44.3,2.3 -44.3,5.33 ccw(c-44.5,5.33) -44.5,5.53 -50.75,5.53 ccw(c-50.75,5.33) -50.95,5.33 -50.95,2.3 -51.65,2.3 ccw(c-51.65,2.1) -51.85,2.1 -51.85,-0.3
Layout + Dimensions:
  lines w0.1: -57,-7.125 -56.25,-7.125 ; -57,-4.75 -55.75,-4.75 ; -57,-2.375 -56.25,-2.375 ; -57,0 -0.375,0 ; -57,2.375 -56.25,2.375 ; -57,4.75 -55.75,4.75 ; -57,7.125 -56.25,7.125 ; -54.625,-9.5 -54.625,-8.75 ; -54.625,8.75 -54.625,9.5 ; -52.25,-9.5 -52.25,-8.25 ; -52.25,8.25 -52.25,9.5 ; -49.875,-9.5 -49.875,-8.75 ; -49.875,8.75 -49.875,9.5 ; -47.625,-7.425 -47.625,2.375 ; -47.5,-9.5 -47.5,-7.75 ; -47.5,7.75 -47.5,9.5 ; -45.125,-9.5 -45.125,-8.75 ; -45.125,8.75 -45.125,9.5 ; -42.75,-9.5 -42.75,-8.25 ; -42.75,8.25 -42.75,9.5 ; -40.375,-9.5 -40.375,-8.75 ; -40.375,8.75 -40.375,9.5 ; -38,-9.5 -38,-7.75 ; -38,7.75 -38,9.5 ; -35.625,-9.5 -35.625,-8.75 ; -35.625,8.75 -35.625,9.5 ; -33.25,-9.5 -33.25,-8.25 ; -33.25,8.25 -33.25,9.5 ; -30.875,-9.5 -30.875,-8.75 ; -30.875,8.75 -30.875,9.5 ; -28.5,-9.5 -28.5,-7.75 ; -28.5,7.75 -28.5,9.5 ; -26.125,-9.5 -26.125,-8.75 ; -26.125,8.75 -26.125,9.5 ; -23.75,-9.5 -23.75,-8.25 ; -23.75,8.25 -23.75,9.5 ; -21.375,-9.5 -21.375,-8.75 ; -21.375,8.75 -21.375,9.5 ; -19,-9.5 -19,-7.75 ; -19,7.75 -19,9.5 ; -16.625,-9.5 -16.625,-8.75 ; -16.625,8.75 -16.625,9.5 ; -14.25,-9.5 -14.25,-8.25 ; -14.25,8.25 -14.25,9.5 ; -11.875,-9.5 -11.875,-8.75 ; -11.875,8.75 -11.875,9.5 ; -9.5,-9.5 -9.5,-7.75 ; -9.5,7.75 -9.5,9.5 ; -7.125,-9.5 -7.125,-8.75 ; -7.125,8.75 -7.125,9.5 ; -4.75,-9.5 -4.75,-8.25 ; -4.75,8.25 -4.75,9.5 ; -2.375,-9.5 -2.375,-8.75 ; -2.375,8.75 -2.375,9.5 ; 0,-9.5 0,-7.25 ; 0,7.25 0,9.5 ; 0.375,0 57,0 ; 2.375,-9.5 2.375,-8.75 ; 2.375,8.75 2.375,9.5 ; 4.75,-9.5 4.75,-8.25 ; 4.75,8.25 4.75,9.5 ; 7.125,-9.5 7.125,-8.75 ; 7.125,8.75 7.125,9.5 ; 9.5,-9.5 9.5,-7.75 ; 9.5,7.75 9.5,9.5 ; 11.875,-9.5 11.875,-8.75 ; 11.875,8.75 11.875,9.5 ; 14.25,-9.5 14.25,-8.25 ; 14.25,8.25 14.25,9.5 ; 16.625,-9.5 16.625,-8.75 ; 16.625,8.75 16.625,9.5 ; 19,-9.5 19,-7.75 ; 19,7.75 19,9.5 ; 21.375,-9.5 21.375,-8.75 ; 21.375,8.75 21.375,9.5 ; 23.75,-9.5 23.75,-8.25 ; 23.75,8.25 23.75,9.5 ; 26.125,-9.5 26.125,-8.75 ; 26.125,8.75 26.125,9.5 ; 28.5,-9.5 28.5,-7.75 ; 28.5,7.75 28.5,9.5 ; 30.875,-9.5 30.875,-8.75 ; 30.875,8.75 30.875,9.5 ; 33.25,-9.5 33.25,-8.25 ; 33.25,8.25 33.25,9.5 ; 35.625,-9.5 35.625,-8.75 ; 35.625,8.75 35.625,9.5 ; 38,-9.5 38,-7.75 ; 38,7.75 38,9.5 ; 40.375,-9.5 40.375,-8.75 ; 40.375,8.75 40.375,9.5 ; 42.75,-9.5 42.75,-8.25 ; 42.75,8.25 42.75,9.5 ; 45.125,-9.5 45.125,-8.75 ; 45.125,8.75 45.125,9.5 ; 47.5,-9.5 47.5,-7.75 ; 47.5,7.75 47.5,9.5 ; 47.625,-7.425 47.625,2.375 ; 49.875,-9.5 49.875,-8.75 ; 49.875,8.75 49.875,9.5 ; 52.25,-9.5 52.25,-8.25 ; 52.25,8.25 52.25,9.5 ; 54.625,-9.5 54.625,-8.75 ; 54.625,8.75 54.625,9.5 ; 55.75,-4.75 57,-4.75 ; 55.75,4.75 57,4.75 ; 56.25,-7.125 57,-7.125 ; 56.25,-2.375 57,-2.375 ; 56.25,2.375 57,2.375 ; 56.25,7.125 57,7.125 ; -57,-9.5 57,-9.5 57,9.5 -57,9.5 -57,-9.5

## 7U [mm]
pads (20):
  round 0.1 hole 0.4 unplated: 27(-61.175,-0.295) 27(-61.17,2.1) 27(-60.275,-6.565) 27(-60.27,5.33) 27(-58.45,-7.765) 27(-55.855,-7.77) 27(-54.03,-6.57) 27(-54.025,5.325) 27(-6.8,-6.795) 27(-6.795,6.8) 27(6.795,6.8) 27(6.8,-6.795) 27(54.025,5.325) 27(54.03,-6.57) 27(55.855,-7.77) 27(58.45,-7.765) 27(60.27,5.33) 27(60.275,-6.565) 27(61.17,2.1) 27(61.175,-0.295)
Keep-Out Layer:
  drawing of 1 lines, arcs and shapes, not listed
Board Outline:
  lines w0.1: -61.375,-0.3 ccw(c-61.175,-0.3) -61.175,-0.5 -60.475,-0.5 -60.475,-6.57 ccw(c-60.275,-6.57) -60.275,-6.77 -58.65,-6.77 -58.65,-7.77 ccw(c-58.45,-7.77) -58.45,-7.97 -55.85,-7.97 ccw(c-55.85,-7.77) -55.65,-7.77 -55.65,-6.77 -54.025,-6.77 ccw(c-54.025,-6.57) -53.825,-6.57 -53.825,-2.3 -7,-2.3 -7,-6.8 ccw(c-6.8,-6.8) -6.8,-7 6.8,-7 ccw(c6.8,-6.8) 7,-6.8 7,-2.3 53.825,-2.3 53.825,-6.57 ccw(c54.025,-6.57) 54.025,-6.77 55.65,-6.77 55.65,-7.77 ccw(c55.85,-7.77) 55.85,-7.97 58.45,-7.97 ccw(c58.45,-7.77) 58.65,-7.77 58.65,-6.77 60.275,-6.77 ccw(c60.275,-6.57) 60.475,-6.57 60.475,-0.5 61.175,-0.5 ccw(c61.175,-0.3) 61.375,-0.3 61.375,2.1 ccw(c61.175,2.1) 61.175,2.3 60.475,2.3 60.475,5.33 ccw(c60.275,5.33) 60.275,5.53 54.025,5.53 ccw(c54.025,5.33) 53.825,5.33 53.825,2.3 7,2.3 7,6.8 ccw(c6.8,6.8) 6.8,7 -6.8,7 ccw(c-6.8,6.8) -7,6.8 -7,2.3 -53.825,2.3 -53.825,5.33 ccw(c-54.025,5.33) -54.025,5.53 -60.275,5.53 ccw(c-60.275,5.33) -60.475,5.33 -60.475,2.3 -61.175,2.3 ccw(c-61.175,2.1) -61.375,2.1 -61.375,-0.3
Layout + Dimensions:
  lines w0.1: -66.5,-7.125 -65.75,-7.125 ; -66.5,-4.75 -65.25,-4.75 ; -66.5,-2.375 -65.75,-2.375 ; -66.5,0 -0.375,0 ; -66.5,2.375 -65.75,2.375 ; -66.5,4.75 -65.25,4.75 ; -66.5,7.125 -65.75,7.125 ; -64.125,-9.5 -64.125,-8.75 ; -64.125,8.75 -64.125,9.5 ; -61.75,-9.5 -61.75,-8.25 ; -61.75,8.25 -61.75,9.5 ; -59.375,-9.5 -59.375,-8.75 ; -59.375,8.75 -59.375,9.5 ; -57.15,-7.425 -57.15,2.375 ; -57,-9.5 -57,-7.75 ; -57,7.75 -57,9.5 ; -54.625,-9.5 -54.625,-8.75 ; -54.625,8.75 -54.625,9.5 ; -52.25,-9.5 -52.25,-8.25 ; -52.25,8.25 -52.25,9.5 ; -49.875,-9.5 -49.875,-8.75 ; -49.875,8.75 -49.875,9.5 ; -47.5,-9.5 -47.5,-7.75 ; -47.5,7.75 -47.5,9.5 ; -45.125,-9.5 -45.125,-8.75 ; -45.125,8.75 -45.125,9.5 ; -42.75,-9.5 -42.75,-8.25 ; -42.75,8.25 -42.75,9.5 ; -40.375,-9.5 -40.375,-8.75 ; -40.375,8.75 -40.375,9.5 ; -38,-9.5 -38,-7.75 ; -38,7.75 -38,9.5 ; -35.625,-9.5 -35.625,-8.75 ; -35.625,8.75 -35.625,9.5 ; -33.25,-9.5 -33.25,-8.25 ; -33.25,8.25 -33.25,9.5 ; -30.875,-9.5 -30.875,-8.75 ; -30.875,8.75 -30.875,9.5 ; -28.5,-9.5 -28.5,-7.75 ; -28.5,7.75 -28.5,9.5 ; -26.125,-9.5 -26.125,-8.75 ; -26.125,8.75 -26.125,9.5 ; -23.75,-9.5 -23.75,-8.25 ; -23.75,8.25 -23.75,9.5 ; -21.375,-9.5 -21.375,-8.75 ; -21.375,8.75 -21.375,9.5 ; -19,-9.5 -19,-7.75 ; -19,7.75 -19,9.5 ; -16.625,-9.5 -16.625,-8.75 ; -16.625,8.75 -16.625,9.5 ; -14.25,-9.5 -14.25,-8.25 ; -14.25,8.25 -14.25,9.5 ; -11.875,-9.5 -11.875,-8.75 ; -11.875,8.75 -11.875,9.5 ; -9.5,-9.5 -9.5,-7.75 ; -9.5,7.75 -9.5,9.5 ; -7.125,-9.5 -7.125,-8.75 ; -7.125,8.75 -7.125,9.5 ; -4.75,-9.5 -4.75,-8.25 ; -4.75,8.25 -4.75,9.5 ; -2.375,-9.5 -2.375,-8.75 ; -2.375,8.75 -2.375,9.5 ; 0,-9.5 0,-7.25 ; 0,7.25 0,9.5 ; 0.375,0 66.5,0 ; 2.375,-9.5 2.375,-8.75 ; 2.375,8.75 2.375,9.5 ; 4.75,-9.5 4.75,-8.25 ; 4.75,8.25 4.75,9.5 ; 7.125,-9.5 7.125,-8.75 ; 7.125,8.75 7.125,9.5 ; 9.5,-9.5 9.5,-7.75 ; 9.5,7.75 9.5,9.5 ; 11.875,-9.5 11.875,-8.75 ; 11.875,8.75 11.875,9.5 ; 14.25,-9.5 14.25,-8.25 ; 14.25,8.25 14.25,9.5 ; 16.625,-9.5 16.625,-8.75 ; 16.625,8.75 16.625,9.5 ; 19,-9.5 19,-7.75 ; 19,7.75 19,9.5 ; 21.375,-9.5 21.375,-8.75 ; 21.375,8.75 21.375,9.5 ; 23.75,-9.5 23.75,-8.25 ; 23.75,8.25 23.75,9.5 ; 26.125,-9.5 26.125,-8.75 ; 26.125,8.75 26.125,9.5 ; 28.5,-9.5 28.5,-7.75 ; 28.5,7.75 28.5,9.5 ; 30.875,-9.5 30.875,-8.75 ; 30.875,8.75 30.875,9.5 ; 33.25,-9.5 33.25,-8.25 ; 33.25,8.25 33.25,9.5 ; 35.625,-9.5 35.625,-8.75 ; 35.625,8.75 35.625,9.5 ; 38,-9.5 38,-7.75 ; 38,7.75 38,9.5 ; 40.375,-9.5 40.375,-8.75 ; 40.375,8.75 40.375,9.5 ; 42.75,-9.5 42.75,-8.25 ; 42.75,8.25 42.75,9.5 ; 45.125,-9.5 45.125,-8.75 ; 45.125,8.75 45.125,9.5 ; 47.5,-9.5 47.5,-7.75 ; 47.5,7.75 47.5,9.5 ; 49.875,-9.5 49.875,-8.75 ; 49.875,8.75 49.875,9.5 ; 52.25,-9.5 52.25,-8.25 ; 52.25,8.25 52.25,9.5 ; 54.625,-9.5 54.625,-8.75 ; 54.625,8.75 54.625,9.5 ; 57,-9.5 57,-7.75 ; 57,7.75 57,9.5 ; 57.15,-7.425 57.15,2.375 ; 59.375,-9.5 59.375,-8.75 ; 59.375,8.75 59.375,9.5 ; 61.75,-9.5 61.75,-8.25 ; 61.75,8.25 61.75,9.5 ; 64.125,-9.5 64.125,-8.75 ; 64.125,8.75 64.125,9.5 ; 65.25,-4.75 66.5,-4.75 ; 65.25,4.75 66.5,4.75 ; 65.75,-7.125 66.5,-7.125 ; 65.75,-2.375 66.5,-2.375 ; 65.75,2.375 66.5,2.375 ; 65.75,7.125 66.5,7.125 ; -66.5,-9.5 -66.5,9.5 66.5,9.5 66.5,-9.5 -66.5,-9.5